# Altium schematic symbol library 1-776267-1.SchLib: 1 symbol
Pins are listed as number, name and electrical type; pins without a type are passive.

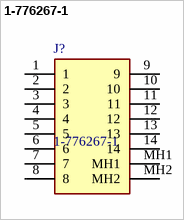
[diagram p0: symbol 1-776267-1]

## 1-776267-1
designator J?
AMP - TE CONNECTIVITY - 1-776267-1 - CONNECTOR, HEADER, THT, R/A, 4MM, 14WAY; Geometry.Height: 32.3mm; Mouser Part Number: 571-1-776267-1; Mouser Price/Stock: https://www.mouser.co.uk/ProductDetail/TE-Connectivity-AMP/1-776267-1?qs=tLAa1RwIH6fkHL6Gg3bgqw%3D%3D; Manufacturer_Name: TE Connectivity; Manufacturer_Part_Number: 1-776267-1; Datasheet Link: https://www.te.com/commerce/DocumentDelivery/DDEController?Action=showdoc&DocId=Customer+Drawing%7F776267%7FB7%7Fpdf%7FEnglish%7FENG_CD_776267_B7.pdf%7F1-776267-1
footprint 17762671
pins: 1, 2, 3, 4, 5, 6, 7, 8, 9, 10, 11, 12, 13, 14, MH1, MH2